# Altium schematic symbol library R-CRCW0603220RJNE.Schlib: 1 symbol
Pins are listed as number, name and electrical type; pins without a type are passive.

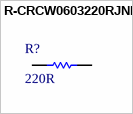
[diagram p0: symbol R-CRCW0603220RJNE]

## R-CRCW0603220RJNE
designator R?, comment 220R
Thick Film Resistors - SMD 1/10watt 220ohms 5%
pins: 1, 2